# EAGLE library part OCXO-6-PIN (library IQD-Frequency-Products)
Oven controlled Xtal Oscillator
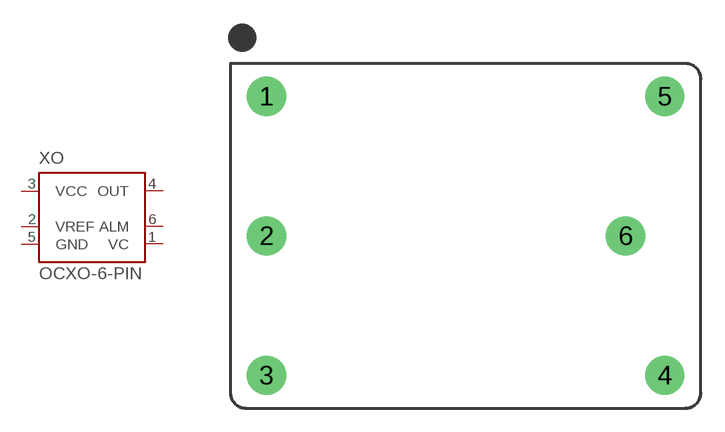
[diagram p0: symbol with the pads of CO-08-5; footprint CO-08-5]

Designator prefix XO

## OCXO-6-PIN-IQOV-70-7  [CO-08-5]
1  VC  in
2  VREF  out
3  VCC  pwr
4  OUT  out
5  GND  pwr
6  ALM  out

## OCXO-6-PIN-IQOV-70-8  [CO-08-5]
Pads as for CO-08-5

## Footprint CO-08-5 (pad centres in mm)
IQD Frequency Products Package
drill 1 pad 2.5: 1 -12.7,8.9; 2 -12.7,0; 3 -12.7,-8.9; 4 12.7,-8.9; 5 12.7,8.9; 6 10.19,0